# EAGLE library part BSC080N03 (library infineon)
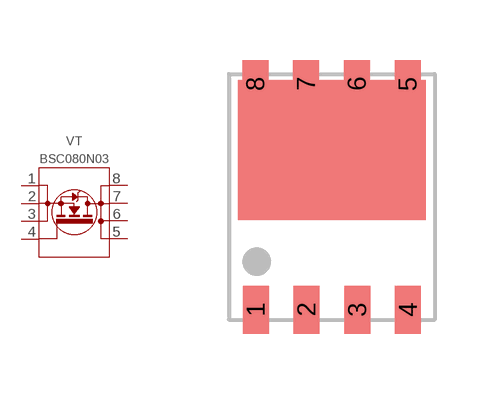
[diagram p1: symbol with the pads of TDSON-8; footprint TDSON-8]

Designator prefix VT

## BSC080N03LSGATMA1  [TDSON-8]
1  S  pas
2  S  pas
3  S  pas
4  G  pas
5  D  pas
6  D  pas
7  D  pas
8  D  pas

## Footprint TDSON-8 (pad centres in mm)
smd 0.65 x 1.2: 1 -1.9,-2.825; 2 -0.63,-2.825; 3 0.64,-2.825; 4 1.91,-2.825; 5 1.9,2.825; 6 0.63,2.825; 7 -0.64,2.825; 8 -1.91,2.825